# Altium schematic symbol library ABM3-16.000MHZ-D2Y-T.SchLib: 1 symbol
Pins are listed as number, name and electrical type; pins without a type are passive.

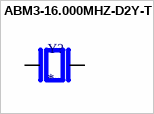
[diagram p0: symbol ABM3-16.000MHZ-D2Y-T]

## ABM3-16.000MHZ-D2Y-T
designator Y?
16 MHz Â±20ppm Crystal 18pF 40 Ohms 2-SMD, No Lead; MF: Abracon; MP: ABM3-16.000MHZ-D2Y-T; Digi-Key_Part_Number: 535-10638-2-ND; Check_prices: https://www.snapeda.com/parts/ABM3-16.000MHZ-D2Y-T/Abracon+LLC/view-part/?ref=eda; SnapEDA_Link: https://www.snapeda.com/parts/ABM3-16.000MHZ-D2Y-T/Abracon+LLC/view-part/?ref=snap; Value: *; Package: SMD-2 Abracon; Purchase-URL: https://pricing.snapeda.com/search/part/ABM3-16.000MHZ-D2Y-T/?ref=eda
footprint XTAL_ABM3-16.000MHZ-D2Y-T
pins: 1, 2